# Altium footprint library OSHW_CAP_Altium_Vault_Generic_20201223.PcbLib: 129 footprints (part 3 of 9)
Each footprint in its own frame and in the unit in brackets; x right, y up, seen from the top. Pads: shape width x height; smd on the part's side, far side on the other; paste and mask are expansions set on the pad; w line width, h text height; cw(c..) or ccw(c..) is an arc to the next point about the centre after c.
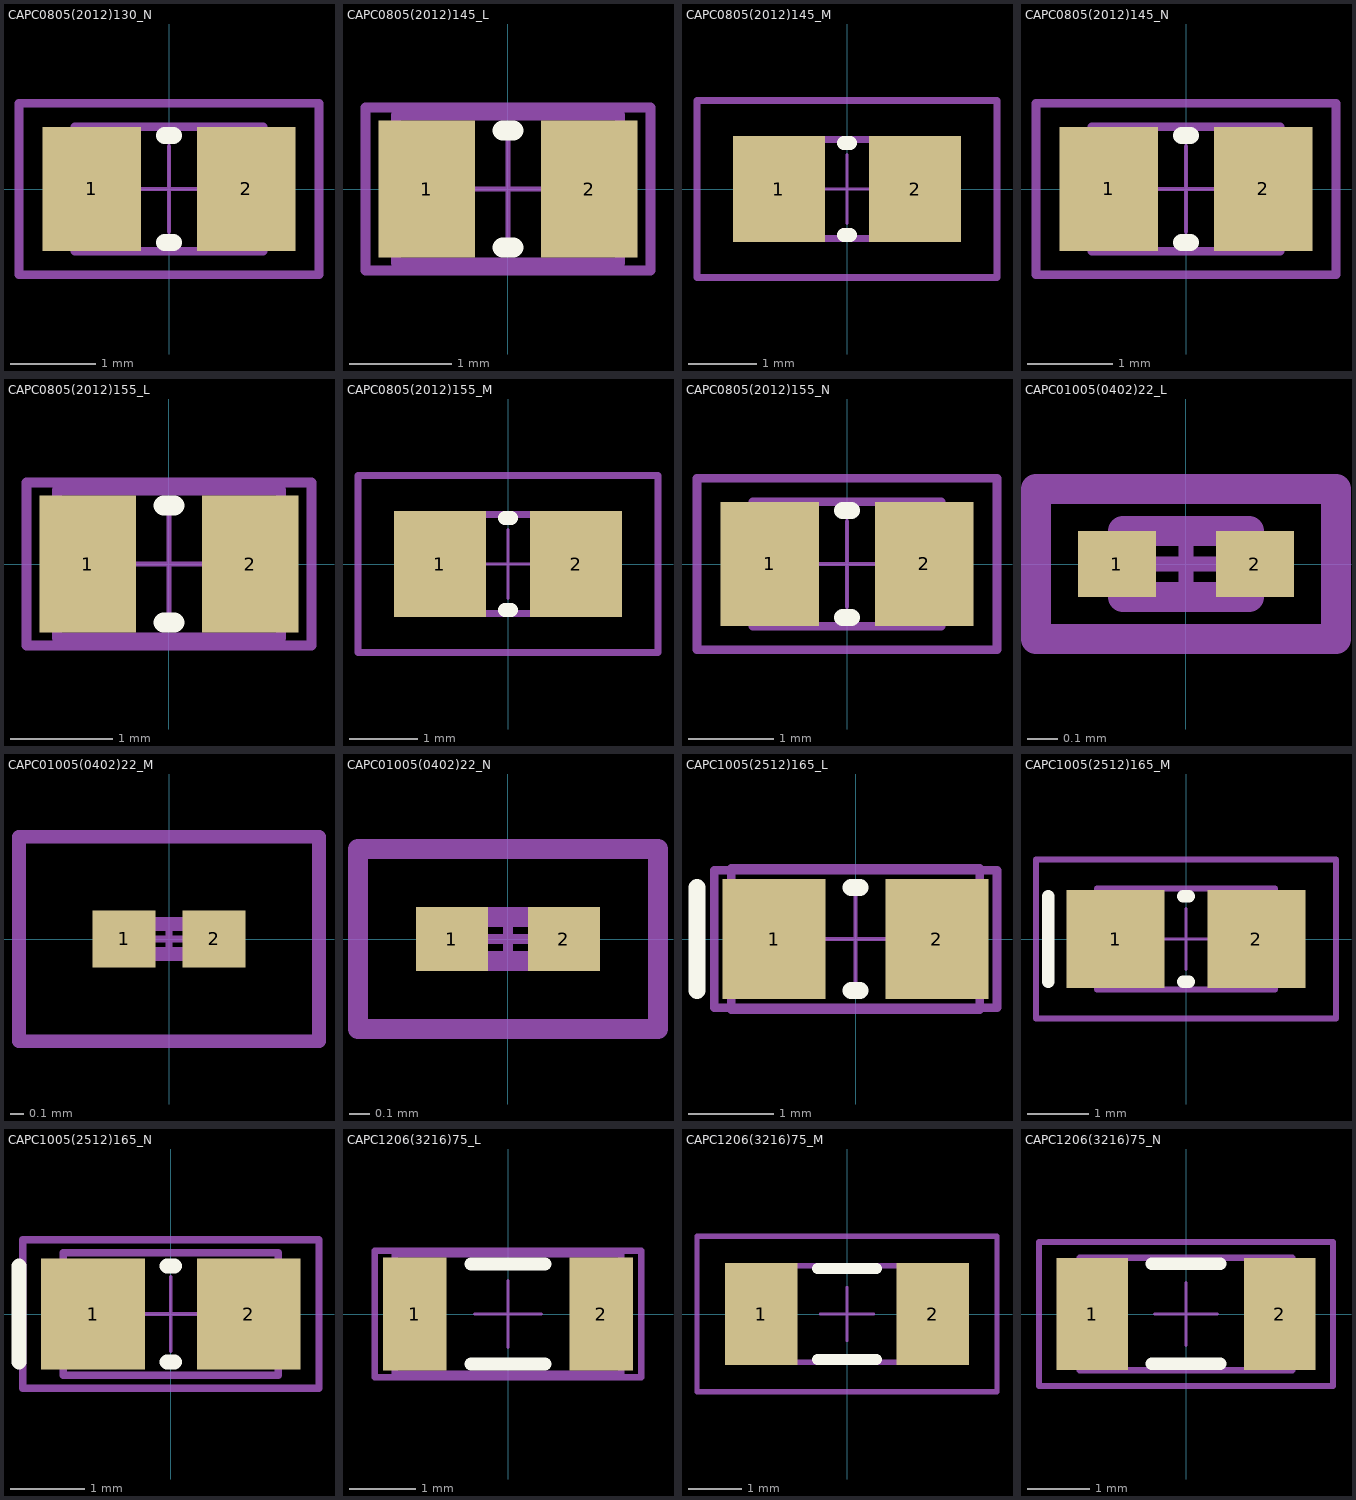
[diagram p2: the footprints below, top view; thin cyan lines are the x and y axes]

## CAPC0805(2012)130_N [mm] "Chip Capacitor, Body 2.0x1.2mm, Height 1.3mm, IPC Medium Density"
height 1.3
pads (2):
  rect 1.15x1.45 smd: 1(-0.9,0) 2(0.9,0)
Top Overlay:
  lines w0.2: -0.05,-0.625 0.05,-0.625 ; -0.05,0.625 0.05,0.625
Top Assembly:
  lines w0.1: -1.75,-1 -1.75,1 1.75,1 1.75,-1 -1.75,-1
  text "'.Designator'" at 0,0 h1
Top Courtyard:
  lines w0.05: -0.5,0 0.5,0 ; 0,-0.5 0,0.5 ; -1.75,-1 1.75,-1 1.75,1 -1.75,1 -1.75,-1
Top Component Outline:
  lines w0.1: -1.1,-0.725 1.1,-0.725 1.1,0.725 -1.1,0.725 -1.1,-0.725
3D body: height 1.3, standoff 0, extent -0.6,-0.725 0.6,0.725
3D body: height 1.3, standoff 0, extent -1.1,-0.725 -0.6,0.725
3D body: height 1.3, standoff 0, extent 0.6,-0.725 1.1,0.725

## CAPC0805(2012)145_L [mm] "Chip Capacitor, Body 2.0x1.2mm, Height 1.45mm, IPC High Density"
height 1.45
pads (2):
  rect 0.95x1.35 smd: 1(-0.8,0) 2(0.8,0)
Top Overlay:
  lines w0.2: -0.05,-0.575 0.05,-0.575 ; -0.05,0.575 0.05,0.575
Top Assembly:
  lines w0.1: -1.4,-0.8 -1.4,0.8 1.4,0.8 1.4,-0.8 -1.4,-0.8
  text "'.Designator'" at 0,0 h1
Top Courtyard:
  lines w0.05: -0.5,0 0.5,0 ; 0,-0.5 0,0.5 ; -1.4,-0.8 1.4,-0.8 1.4,0.8 -1.4,0.8 -1.4,-0.8
Top Component Outline:
  lines w0.1: -1.1,-0.725 1.1,-0.725 1.1,0.725 -1.1,0.725 -1.1,-0.725
3D body: height 1.45, standoff 0, extent -0.6,-0.725 0.6,0.725
3D body: height 1.45, standoff 0, extent -1.1,-0.725 -0.6,0.725
3D body: height 1.45, standoff 0, extent 0.6,-0.725 1.1,0.725

## CAPC0805(2012)145_M [mm] "Chip Capacitor, Body 2.0x1.2mm, Height 1.45mm, IPC Low Density"
height 1.45
pads (2):
  rect 1.35x1.55 smd: 1(-1,0) 2(1,0)
Top Overlay:
  lines w0.2: -0.05,-0.675 0.05,-0.675 ; -0.05,0.675 0.05,0.675
Top Assembly:
  lines w0.1: -2.2,-1.3 -2.2,1.3 2.2,1.3 2.2,-1.3 -2.2,-1.3
  text "'.Designator'" at 0,0 h1
Top Courtyard:
  lines w0.05: -0.5,0 0.5,0 ; 0,-0.5 0,0.5 ; -2.2,-1.3 2.2,-1.3 2.2,1.3 -2.2,1.3 -2.2,-1.3
Top Component Outline:
  lines w0.1: -1.1,-0.725 1.1,-0.725 1.1,0.725 -1.1,0.725 -1.1,-0.725
3D body: height 1.45, standoff 0, extent -0.6,-0.725 0.6,0.725
3D body: height 1.45, standoff 0, extent -1.1,-0.725 -0.6,0.725
3D body: height 1.45, standoff 0, extent 0.6,-0.725 1.1,0.725

## CAPC0805(2012)145_N [mm] "Chip Capacitor, Body 2.0x1.2mm, Height 1.45mm, IPC Medium Density"
height 1.45
pads (2):
  rect 1.15x1.45 smd: 1(-0.9,0) 2(0.9,0)
Top Overlay:
  lines w0.2: -0.05,-0.625 0.05,-0.625 ; -0.05,0.625 0.05,0.625
Top Assembly:
  lines w0.1: -1.75,-1 -1.75,1 1.75,1 1.75,-1 -1.75,-1
  text "'.Designator'" at 0,0 h1
Top Courtyard:
  lines w0.05: -0.5,0 0.5,0 ; 0,-0.5 0,0.5 ; -1.75,-1 1.75,-1 1.75,1 -1.75,1 -1.75,-1
Top Component Outline:
  lines w0.1: -1.1,-0.725 1.1,-0.725 1.1,0.725 -1.1,0.725 -1.1,-0.725
3D body: height 1.45, standoff 0, extent -0.6,-0.725 0.6,0.725
3D body: height 1.45, standoff 0, extent -1.1,-0.725 -0.6,0.725
3D body: height 1.45, standoff 0, extent 0.6,-0.725 1.1,0.725

## CAPC0805(2012)155_L [mm] "Chip Capacitor, Body 2.0x1.2mm, Height 1.55mm, IPC High Density"
height 1.55
pads (2):
  rect 0.95x1.35 smd: 1(-0.8,0) 2(0.8,0)
Top Overlay:
  lines w0.2: -0.05,-0.575 0.05,-0.575 ; -0.05,0.575 0.05,0.575
Top Assembly:
  lines w0.1: -1.4,-0.8 -1.4,0.8 1.4,0.8 1.4,-0.8 -1.4,-0.8
  text "'.Designator'" at 0,0 h1
Top Courtyard:
  lines w0.05: -0.5,0 0.5,0 ; 0,-0.5 0,0.5 ; -1.4,-0.8 -1.4,0.8 1.4,0.8 1.4,-0.8 -1.4,-0.8
Top Component Outline:
  lines w0.1: -1.1,-0.725 1.1,-0.725 1.1,0.725 -1.1,0.725 -1.1,-0.725
3D body: height 1.55, standoff 0, extent 0.6,-0.725 1.1,0.725
3D body: height 1.55, standoff 0, extent -1.1,-0.725 -0.6,0.725
3D body: height 1.55, standoff 0, extent -0.6,-0.725 0.6,0.725

## CAPC0805(2012)155_M [mm] "Chip Capacitor, Body 2.0x1.2mm, Height 1.55mm, IPC Low Density"
height 1.55
pads (2):
  rect 1.35x1.55 smd: 1(-1,0) 2(1,0)
Top Overlay:
  lines w0.2: -0.05,-0.675 0.05,-0.675 ; -0.05,0.675 0.05,0.675
Top Assembly:
  lines w0.1: -2.2,-1.3 -2.2,1.3 2.2,1.3 2.2,-1.3 -2.2,-1.3
  text "'.Designator'" at 0,0 h1
Top Courtyard:
  lines w0.05: -0.5,0 0.5,0 ; 0,-0.5 0,0.5 ; -2.2,-1.3 2.2,-1.3 2.2,1.3 -2.2,1.3 -2.2,-1.3
Top Component Outline:
  lines w0.1: -1.1,-0.725 1.1,-0.725 1.1,0.725 -1.1,0.725 -1.1,-0.725
3D body: height 1.55, standoff 0, extent -0.6,-0.725 0.6,0.725
3D body: height 1.55, standoff 0, extent -1.1,-0.725 -0.6,0.725
3D body: height 1.55, standoff 0, extent 0.6,-0.725 1.1,0.725

## CAPC0805(2012)155_N [mm] "Chip Capacitor, Body 2.0x1.2mm, Height 1.55mm, IPC Medium Density"
height 1.55
pads (2):
  rect 1.15x1.45 smd: 1(-0.9,0) 2(0.9,0)
Top Overlay:
  lines w0.2: -0.05,-0.625 0.05,-0.625 ; -0.05,0.625 0.05,0.625
Top Assembly:
  lines w0.1: -1.75,-1 -1.75,1 1.75,1 1.75,-1 -1.75,-1
  text "'.Designator'" at 0,0 h1
Top Courtyard:
  lines w0.05: -0.5,0 0.5,0 ; 0,-0.5 0,0.5 ; -1.75,-1 1.75,-1 1.75,1 -1.75,1 -1.75,-1
Top Component Outline:
  lines w0.1: -1.1,-0.725 1.1,-0.725 1.1,0.725 -1.1,0.725 -1.1,-0.725
3D body: height 1.55, standoff 0, extent -0.6,-0.725 0.6,0.725
3D body: height 1.55, standoff 0, extent -1.1,-0.725 -0.6,0.725
3D body: height 1.55, standoff 0, extent 0.6,-0.725 1.1,0.725

## CAPC01005(0402)22_L [mm] "Chip Capacitor, Body 0.4x0.2mm, Height 0.22mm, IPC High Density"
height 0.22
pads (2):
  rect 0.26x0.22 smd: 1(-0.23,0) 2(0.23,0)
Top Assembly:
  lines w0.1: -0.5,-0.25 0.5,-0.25 0.5,0.25 -0.5,0.25 -0.5,-0.25
  text "'.Designator'" at 0,0 h1
Top Courtyard:
  lines w0.05: -0.11,0 0.11,0 ; 0,-0.11 0,0.11 ; -0.5,-0.25 -0.5,0.25 0.5,0.25 0.5,-0.25 -0.5,-0.25
Top Component Outline:
  lines w0.1: -0.21,-0.11 -0.21,0.11 0.21,0.11 0.21,-0.11 -0.21,-0.11
3D body: height 0.22, standoff 0, extent 0.11,-0.11 0.21,0.11
3D body: height 0.22, standoff 0, extent -0.21,-0.11 -0.11,0.11
3D body: height 0.22, standoff 0, extent -0.11,-0.11 0.11,0.11

## CAPC01005(0402)22_M [mm] "Chip Capacitor, Body 0.4x0.2mm, Height 0.22mm, IPC Low Density"
height 0.22
pads (2):
  rect 0.46x0.42 smd: 1(-0.33,0) 2(0.33,0)
Top Assembly:
  lines w0.1: -1.1,-0.75 1.1,-0.75 1.1,0.75 -1.1,0.75 -1.1,-0.75
  text "'.Designator'" at 0,0 h1
Top Courtyard:
  lines w0.05: -0.11,0 0.11,0 ; 0,-0.11 0,0.11 ; -1.1,-0.75 1.1,-0.75 1.1,0.75 -1.1,0.75 -1.1,-0.75
Top Component Outline:
  lines w0.1: -0.21,-0.11 0.21,-0.11 0.21,0.11 -0.21,0.11 -0.21,-0.11
3D body: height 0.22, standoff 0, extent 0.11,-0.11 0.21,0.11
3D body: height 0.22, standoff 0, extent -0.21,-0.11 -0.11,0.11
3D body: height 0.22, standoff 0, extent -0.11,-0.11 0.11,0.11

## CAPC01005(0402)22_N [mm] "Chip Capacitor, Body 0.4x0.2mm, Height 0.22mm, IPC Medium Density"
height 0.22
pads (2):
  rect 0.36x0.32 smd: 1(-0.28,0) 2(0.28,0)
Top Assembly:
  lines w0.1: -0.75,-0.45 0.75,-0.45 0.75,0.45 -0.75,0.45 -0.75,-0.45
  text "'.Designator'" at 0,0 h1
Top Courtyard:
  lines w0.05: -0.11,0 0.11,0 ; 0,-0.11 0,0.11 ; -0.75,-0.45 -0.75,0.45 0.75,0.45 0.75,-0.45 -0.75,-0.45
Top Component Outline:
  lines w0.1: -0.21,-0.11 -0.21,0.11 0.21,0.11 0.21,-0.11 -0.21,-0.11
3D body: height 0.22, standoff 0, extent 0.11,-0.11 0.21,0.11
3D body: height 0.22, standoff 0, extent -0.21,-0.11 -0.11,0.11
3D body: height 0.22, standoff 0, extent -0.11,-0.11 0.11,0.11

## CAPC1005(2512)165_L [mm] "Chip Capacitor, Body 2.5x1.3mm, Height 1.65mm, IPC High Density"
height 1.65
pads (2):
  rect 1.2x1.4 smd: 1(-0.95,0) 2(0.95,0)
Top Overlay:
  lines w0.2: -1.85,-0.6 -1.85,0.6 ; -0.05,-0.6 0.05,-0.6 ; -0.05,0.6 0.05,0.6
Top Assembly:
  lines w0.1: -1.65,-0.8 -1.65,0.8 1.65,0.8 1.65,-0.8 -1.65,-0.8
  text "'.Designator'" at 0,0 h1
Top Courtyard:
  lines w0.05: -0.5,0 0.5,0 ; 0,-0.5 0,0.5 ; -1.65,-0.8 -1.65,0.8 1.65,0.8 1.65,-0.8 -1.65,-0.8
Top Component Outline:
  lines w0.1: -1.45,-0.825 -1.45,0.825 1.45,0.825 1.45,-0.825 -1.45,-0.825
3D body: height 1.65, standoff 0, extent 0.69,-0.825 1.45,0.825
3D body: height 1.65, standoff 0, extent -1.45,-0.825 -0.69,0.825
3D body: height 1.65, standoff 0, extent -0.69,-0.825 0.69,0.825

## CAPC1005(2512)165_M [mm] "Chip Capacitor, Body 2.5x1.3mm, Height 1.65mm, IPC Low Density"
height 1.65
pads (2):
  rect 1.6x1.6 smd: 1(-1.15,0) 2(1.15,0)
Top Overlay:
  lines w0.2: -2.25,-0.7 -2.25,0.7 ; -0.05,-0.7 0.05,-0.7 ; -0.05,0.7 0.05,0.7
Top Assembly:
  lines w0.1: -2.45,-1.3 -2.45,1.3 2.45,1.3 2.45,-1.3 -2.45,-1.3
  text "'.Designator'" at 0,0 h1
Top Courtyard:
  lines w0.05: -0.5,0 0.5,0 ; 0,-0.5 0,0.5 ; -2.45,-1.3 -2.45,1.3 2.45,1.3 2.45,-1.3 -2.45,-1.3
Top Component Outline:
  lines w0.1: -1.45,-0.825 -1.45,0.825 1.45,0.825 1.45,-0.825 -1.45,-0.825
3D body: height 1.65, standoff 0, extent 0.69,-0.825 1.45,0.825
3D body: height 1.65, standoff 0, extent -1.45,-0.825 -0.69,0.825
3D body: height 1.65, standoff 0, extent -0.69,-0.825 0.69,0.825

## CAPC1005(2512)165_N [mm] "Chip Capacitor, Body 2.5x1.3mm, Height 1.65mm, IPC Medium Density"
height 1.65
pads (2):
  rect 1.4x1.5 smd: 1(-1.05,0) 2(1.05,0)
Top Overlay:
  lines w0.2: -2.05,-0.65 -2.05,0.65 ; -0.05,-0.65 0.05,-0.65 ; -0.05,0.65 0.05,0.65
Top Assembly:
  lines w0.1: -2,-1 -2,1 2,1 2,-1 -2,-1
  text "'.Designator'" at 0,0 h1
Top Courtyard:
  lines w0.05: -0.5,0 0.5,0 ; 0,-0.5 0,0.5 ; -2,-1 2,-1 2,1 -2,1 -2,-1
Top Component Outline:
  lines w0.1: -1.45,-0.825 1.45,-0.825 1.45,0.825 -1.45,0.825 -1.45,-0.825
3D body: height 1.65, standoff 0, extent -0.69,-0.825 0.69,0.825
3D body: height 1.65, standoff 0, extent -1.45,-0.825 -0.69,0.825
3D body: height 1.65, standoff 0, extent 0.69,-0.825 1.45,0.825

## CAPC1206(3216)75_L [mm] "Chip Capacitor, Body 3.2x1.6mm, Height 0.75mm, IPC High Density"
height 0.75
pads (2):
  rect 0.95x1.7 smd: 1(-1.4,0) 2(1.4,0)
Top Overlay:
  lines w0.2: -0.55,-0.75 0.55,-0.75 ; -0.55,0.75 0.55,0.75
Top Assembly:
  lines w0.1: -2,-0.95 -2,0.95 2,0.95 2,-0.95 -2,-0.95
  text "'.Designator'" at 0,0 h1
Top Courtyard:
  lines w0.05: -0.5,0 0.5,0 ; 0,-0.5 0,0.5 ; -2,-0.95 2,-0.95 2,0.95 -2,0.95 -2,-0.95
Top Component Outline:
  lines w0.1: -1.7,-0.9 1.7,-0.9 1.7,0.9 -1.7,0.9 -1.7,-0.9
3D body: height 0.75, standoff 0, extent -1.2,-0.9 1.2,0.9
3D body: height 0.75, standoff 0, extent -1.7,-0.9 -1.2,0.9
3D body: height 0.75, standoff 0, extent 1.2,-0.9 1.7,0.9

## CAPC1206(3216)75_M [mm] "Chip Capacitor, Body 3.2x1.6mm, Height 0.75mm, IPC Low Density"
height 0.75
pads (2):
  rect 1.35x1.9 smd: 1(-1.6,0) 2(1.6,0)
Top Overlay:
  lines w0.2: -0.55,-0.85 0.55,-0.85 ; -0.55,0.85 0.55,0.85
Top Assembly:
  lines w0.1: -2.8,-1.45 -2.8,1.45 2.8,1.45 2.8,-1.45 -2.8,-1.45
  text "'.Designator'" at 0,0 h1
Top Courtyard:
  lines w0.05: -0.5,0 0.5,0 ; 0,-0.5 0,0.5 ; -2.8,-1.45 2.8,-1.45 2.8,1.45 -2.8,1.45 -2.8,-1.45
Top Component Outline:
  lines w0.1: -1.7,-0.9 1.7,-0.9 1.7,0.9 -1.7,0.9 -1.7,-0.9
3D body: height 0.75, standoff 0, extent -1.2,-0.9 1.2,0.9
3D body: height 0.75, standoff 0, extent -1.7,-0.9 -1.2,0.9
3D body: height 0.75, standoff 0, extent 1.2,-0.9 1.7,0.9

## CAPC1206(3216)75_N [mm] "Chip Capacitor, Body 3.2x1.6mm, Height 0.75mm, IPC Medium Density"
height 0.75
pads (2):
  rect 1.15x1.8 smd: 1(-1.5,0) 2(1.5,0)
Top Overlay:
  lines w0.2: -0.55,-0.8 0.55,-0.8 ; -0.55,0.8 0.55,0.8
Top Assembly:
  lines w0.1: -2.35,-1.15 -2.35,1.15 2.35,1.15 2.35,-1.15 -2.35,-1.15
  text "'.Designator'" at 0,0 h1
Top Courtyard:
  lines w0.05: -0.5,0 0.5,0 ; 0,-0.5 0,0.5 ; -2.35,-1.15 2.35,-1.15 2.35,1.15 -2.35,1.15 -2.35,-1.15
Top Component Outline:
  lines w0.1: -1.7,-0.9 1.7,-0.9 1.7,0.9 -1.7,0.9 -1.7,-0.9
3D body: height 0.75, standoff 0, extent -1.2,-0.9 1.2,0.9
3D body: height 0.75, standoff 0, extent -1.7,-0.9 -1.2,0.9
3D body: height 0.75, standoff 0, extent 1.2,-0.9 1.7,0.9